# EAGLE library part SC1176 (library RPiZ2W)
Check availability <https://pricing.snapeda.com/parts/SC1176/Raspberry%20Pi/view-part?ref=eda>
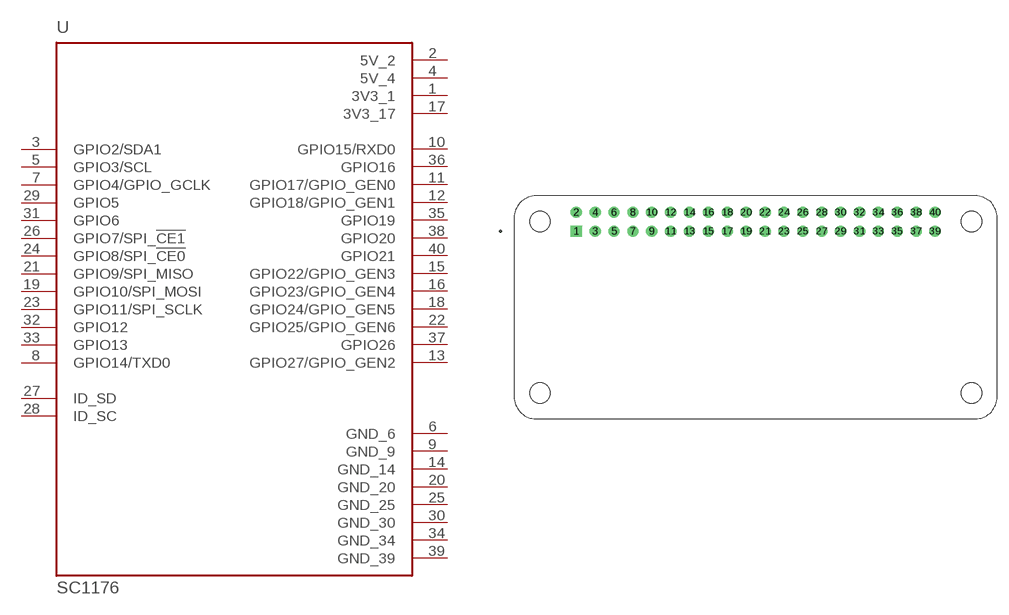
[diagram p0: symbol with the pads of MODULE_SC1176; footprint MODULE_SC1176]

Designator prefix U

## SC1176 (Availability: In Stock; Check_prices: https://www.snapeda.com/parts/SC1176/Raspberry+Pi/view-part/?ref=eda; Description: The Raspberry Pi Zero 2 W SC1176 single board computer features a 1GHz quad-core Broadcom BCM2710A1 Arm Cortex-A53 processor and 512MB of RAM, making it a powerful solution for embedded computing applications. With 40 digital I/O lines and multiple expansion options including Bluetooth 4.2, BLE, HAT GPIO, and LAN, this SBC offers extensive connectivity and flexibility. Its compact size of 2.600 x 1.180 (66.04mm x 29.97mm) makes it ideal for space-constrained projects. Video outputs include Composite and HDMI, and it features a microSD storage interface and a USB 2.0 OTG port.; MF: Raspberry Pi; MP: SC1176; Package: None; Price: None; SnapEDA_Link: https://www.snapeda.com/parts/SC1176/Raspberry+Pi/view-part/?ref=snap)  [MODULE_SC1176]
1  3V3_1  pwr
2  5V_2  pwr
3  GPIO2/SDA1
4  5V_4  pwr
5  GPIO3/SCL
6  GND_6  pwr
7  GPIO4/GPIO_GCLK
8  GPIO14/TXD0
9  GND_9  pwr
10  GPIO15/RXD0
11  GPIO17/GPIO_GEN0
12  GPIO18/GPIO_GEN1
13  GPIO27/GPIO_GEN2
14  GND_14  pwr
15  GPIO22/GPIO_GEN3
16  GPIO23/GPIO_GEN4
17  3V3_17  pwr
18  GPIO24/GPIO_GEN5
19  GPIO10/SPI_MOSI
20  GND_20  pwr
21  GPIO9/SPI_MISO
22  GPIO25/GPIO_GEN6
23  GPIO11/SPI_SCLK
24  GPIO8/SPI_!CE0!
25  GND_25  pwr
26  GPIO7/SPI_!CE1!
27  ID_SD
28  ID_SC
29  GPIO5
30  GND_30  pwr
31  GPIO6
32  GPIO12
33  GPIO13
34  GND_34  pwr
35  GPIO19
36  GPIO16
37  GPIO26
38  GPIO20
39  GND_39  pwr
40  GPIO21

## Footprint MODULE_SC1176 (pad centres in mm)
drill 1 square: 1 -24.13,10.23
drill 1: 2 -24.13,12.77; 3 -21.59,10.23; 4 -21.59,12.77; 5 -19.05,10.23; 6 -19.05,12.77; 7 -16.51,10.23; 8 -16.51,12.77; 9 -13.97,10.23; 10 -13.97,12.77; 11 -11.43,10.23; 12 -11.43,12.77; 13 -8.89,10.23; 14 -8.89,12.77; 15 -6.35,10.23; 16 -6.35,12.77; 17 -3.81,10.23; 18 -3.81,12.77; 19 -1.27,10.23; 20 -1.27,12.77; 21 1.27,10.23; 22 1.27,12.77; 23 3.81,10.23; 24 3.81,12.77; 25 6.35,10.23; 26 6.35,12.77; 27 8.89,10.23; 28 8.89,12.77; 29 11.43,10.23; 30 11.43,12.77; 31 13.97,10.23; 32 13.97,12.77; 33 16.51,10.23; 34 16.51,12.77; 35 19.05,10.23; 36 19.05,12.77; 37 21.59,10.23; 38 21.59,12.77; 39 24.13,10.23; 40 24.13,12.77
hole 2.75 at -29,-11.5
hole 2.75 at -29,11.5
hole 2.75 at 29,-11.5
hole 2.75 at 29,11.5